# Altium footprint library L1515 - COILCRAFT.PcbLib: 1 footprints
Each footprint in its own frame and in the unit in brackets; x right, y up, seen from the top. Pads: shape width x height; smd on the part's side, far side on the other; paste and mask are expansions set on the pad; w line width, h text height; cw(c..) or ccw(c..) is an arc to the next point about the centre after c.
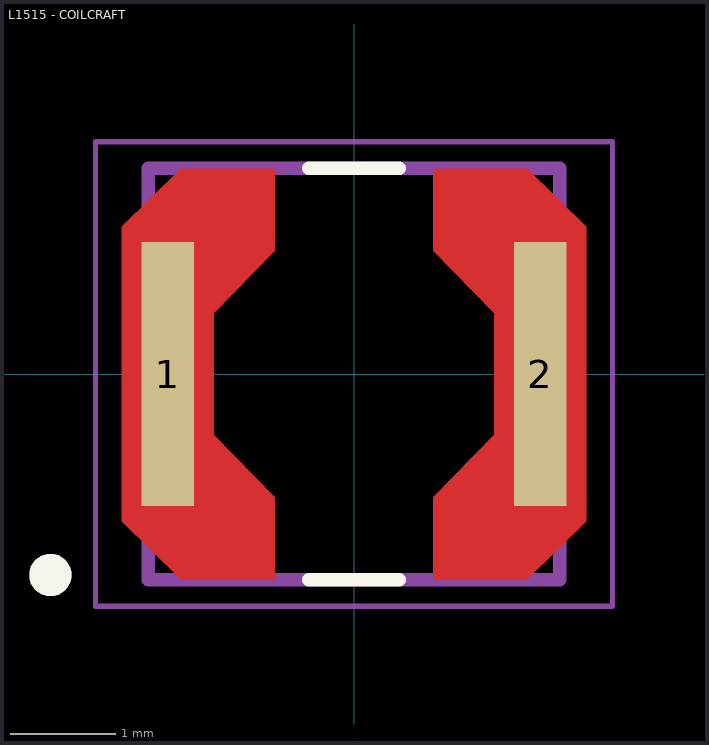
[diagram p0: the footprint, top view; thin cyan lines are the x and y axes]

## L1515 - COILCRAFT [mm]
height 1.8
pads (2):
  rect 0.5x2.5 smd paste-2 mask+0: 1(-1.765,0) 2(1.765,0)
Top Layer:
  region: 2.2,1.395 2.2,-1.395 1.64,-1.945 0.75,-1.945 0.75,-1.17 1.33,-0.575 1.33,0.575 0.75,1.17 0.75,1.945 1.64,1.945
  region: -0.75,1.17 -1.33,0.575 -1.33,-0.575 -0.75,-1.17 -0.75,-1.945 -1.64,-1.945 -2.2,-1.395 -2.2,1.395 -1.64,1.945 -0.75,1.945
Top Overlay:
  circle w0.2: c-2.877,-1.905 r0.1
  lines w0.127: -0.43,-1.95 0.43,-1.95 ; -0.43,1.95 0.43,1.95
Top Paste:
  region: 2.2,1.395 2.2,-1.395 1.64,-1.945 0.75,-1.945 0.75,-1.17 1.33,-0.575 1.33,0.575 0.75,1.17 0.75,1.945 1.64,1.945
  region: -0.75,1.17 -1.33,0.575 -1.33,-0.575 -0.75,-1.17 -0.75,-1.945 -1.64,-1.945 -2.2,-1.395 -2.2,1.395 -1.64,1.945 -0.75,1.945
Top Solder:
  region: 2.3,1.437 2.3,-1.437 1.681,-2.045 0.65,-2.045 0.65,-1.129 1.23,-0.534 1.23,0.534 0.65,1.129 0.65,2.045 1.681,2.045
  region: -0.65,1.129 -1.23,0.534 -1.23,-0.534 -0.65,-1.129 -0.65,-2.045 -1.681,-2.045 -2.3,-1.437 -2.3,1.437 -1.681,2.045 -0.65,2.045
Mechanical 13:
  circle w0.2: c-2.877,-1.905 r0.1
  lines w0.127: -1.95,-1.95 -1.95,1.95 1.95,1.95 1.95,-1.95 -1.95,-1.95
Mechanical 15:
  lines w0.05: -2.45,-2.2 -2.45,2.2 2.45,2.2 2.45,-2.2 -2.45,-2.2
3D body "step_temp.STEP": height 1.8, standoff 0, extent -1.95,-1.95 1.95,1.95